# Altium footprint library PcbLib1.PcbLib: 1 footprints
Each footprint in its own frame and in the unit in brackets; x right, y up, seen from the top. Pads: shape width x height; smd on the part's side, far side on the other; paste and mask are expansions set on the pad; w line width, h text height; cw(c..) or ccw(c..) is an arc to the next point about the centre after c.
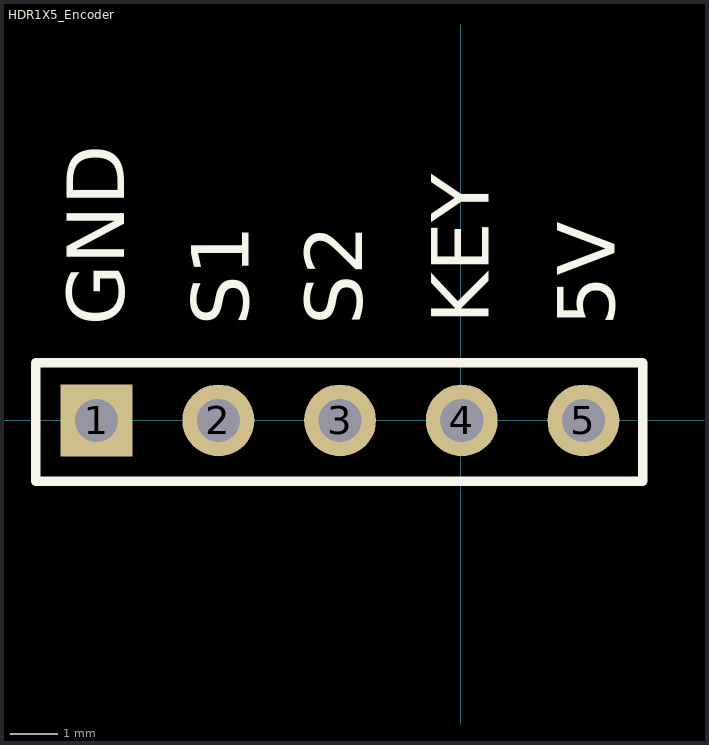
[diagram p0: the footprint, top view; thin cyan lines are the x and y axes]

## HDR1X5_Encoder [mm] "Header 5 pins for Encoder module"
pads (5):
  rect 1.5x1.5 hole 0.9: 1(-7.6,0)
  round 1.5 hole 0.9: 2(-5.06,0) 3(-2.52,0) 4(0.02,0) 5(2.56,0)
Top Overlay:
  lines w0.2: -8.87,-1.27 -8.87,1.2 3.8,1.2 3.8,-1.27 -8.87,-1.27
  text "GND" at -7.027,1.977 h1.2
  text "S1" at -4.427,1.977 h1.2
  text "S2" at -2.053,1.988 h1.2
  text "KEY" at 0.58,2.007 h1.2
  text "5V" at 3.212,1.97 h1.2